# EAGLE library part CONN_23 (library bitcows-SparkFun-Connectors)
Multi connection point. Often used as Generic Header-pin footprint for 0.1 inch spaced/style header connections On any of the 0.1 inch spaced packages, you can populate with these: Break Away Headers - Straight <https://www.sparkfun.com/products/116> (PRT-00116) Break Away Male Headers - Right Angle <https://www.sparkfun.com/products/553> (PRT-00553) Female Headers <https://www.sparkfun.com/products/115> (PRT-00115) Break Away Headers - Machine Pin <https://www.sparkfun.com/products/117> (PRT-00117) Break Away Female Headers - Swiss Machine Pin <https://www.sparkfun.com/products/743> (PRT-00743) For SCREWTERMINALS and SPRING TERMINALS visit here: Screw Terimnals on SparkFun.com <https://www.sparkfun.com/search/results?term=Screw+Terminals> (5mm/3.5mm/2.54mm spacing) This device is also useful as a general connection point to wire up your design to another part of your project. Our various solder wires solder well into these plated through hole pads. Hook-Up Wire - Assortment (Stranded, 22 AWG) <https://www.sparkfun.com/products/11375> (PRT-11375) Hook-Up Wire - Assortment (Solid Core, 22 AWG) <https://www.sparkfun.com/products/11367> (PRT-11367) View the entire wire category on our website here <https://www.sparkfun.com/categories/141> Special notes: Molex polarized connector foot print use with SKU : PRT-08231 with associated crimp pins and housings. 1MM SMD Version SKU: PRT-10208 NOTES ON THE VARIANTS LOCK and LOCK_LONGPADS... This footprint was designed to help hold the alignment of a through-hole component (i.e. 6-pin header) while soldering it into place. You may notice that each hole has been shifted either up or down by 0.005 of an inch from it's more standard position (which is a perfectly straight line). This slight alteration caused the pins (the squares in the middle) to touch the edges of the holes. Because they are alternating, it causes a "brace" to hold the component in place. 0.005 has proven to be the perfect amount of "off-center" position when using our standard breakaway headers. Although looks a little odd when you look at the bare footprint, once you have a header in there, the alteration is very hard to notice. Also,if you push a header all the way into place, it is covered up entirely on the bottom side.
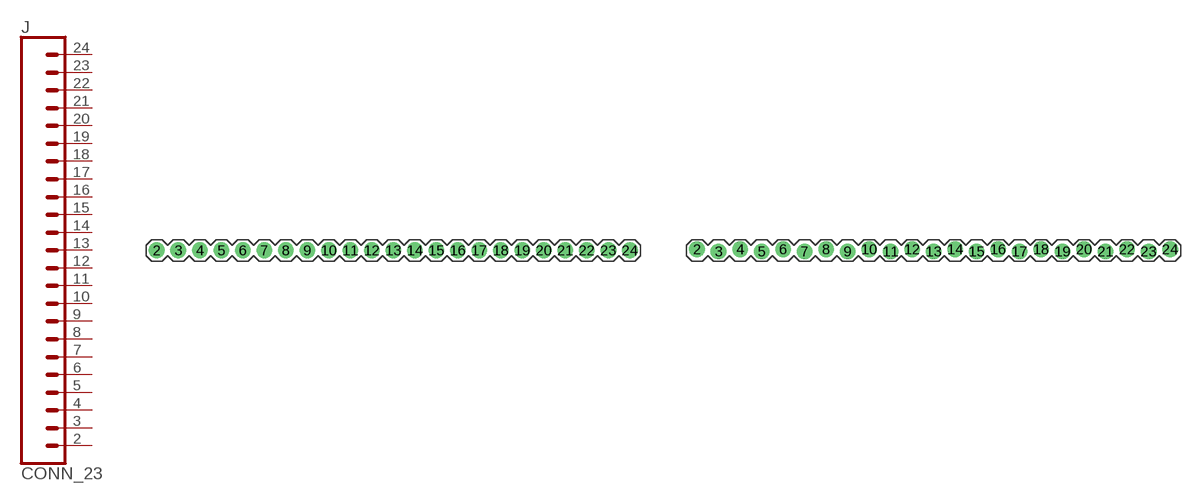
[diagram p43: symbol with the pads of 1X23; footprints 1X23, 1X23_LOCK]

Designator prefix J

## CONN_23  [1X23]
2  2  pas
3  3  pas
4  4  pas
5  5  pas
6  6  pas
7  7  pas
8  8  pas
9  9  pas
10  10  pas
11  11  pas
12  12  pas
13  13  pas
14  14  pas
15  15  pas
16  16  pas
17  17  pas
18  18  pas
19  19  pas
20  20  pas
21  21  pas
22  22  pas
23  23  pas
24  24  pas

## CONN_23LOCK  [1X23_LOCK]
Pads as for 1X23

## CONN_23LONGPADS  [1X23_LONGPADS]
Pads as for 1X23

## Footprint 1X23 (pad centres in mm)
Plated Through Hole -23 Pin Specifications: Pin count:23 Pin pitch:0.1" Example device(s): CONN_23
drill 1.016 pad 1.88: 2 -26.67,0; 3 -24.13,0; 4 -21.59,0; 5 -19.05,0; 6 -16.51,0; 7 -13.97,0; 8 -11.43,0; 9 -8.89,0; 10 -6.35,0; 11 -3.81,0; 12 -1.27,0; 13 1.27,0; 14 3.81,0; 15 6.35,0; 16 8.89,0; 17 11.43,0; 18 13.97,0; 19 16.51,0; 20 19.05,0; 21 21.59,0; 22 24.13,0; 23 26.67,0; 24 29.21,0

## Footprint 1X23_LOCK (pad centres in mm)
Plated Through Hole -23 Pin Locking Footprint Holes are offset 0.005" from center, to hold pins in place while soldering Specifications: Pin count:23 Pin pitch:0.1" Example device(s): CONN_23
drill 1.016 pad 1.88: 2 -26.67,0.127; 3 -24.13,-0.127; 4 -21.59,0.127; 5 -19.05,-0.127; 6 -16.51,0.127; 7 -13.97,-0.127; 8 -11.43,0.127; 9 -8.89,-0.127; 10 -6.35,0.127; 11 -3.81,-0.127; 12 -1.27,0.127; 13 1.27,-0.127; 14 3.81,0.127; 15 6.35,-0.127; 16 8.89,0.127; 17 11.43,-0.127; 18 13.97,0.127; 19 16.51,-0.127; 20 19.05,0.127; 21 21.59,-0.127; 22 24.13,0.127; 23 26.67,-0.127; 24 29.21,0.127

## Footprint 1X23_LONGPADS (pad centres in mm)
Plated Through Hole -23 Pin Long Pads Specifications: Pin count:23 Pin pitch:0.1" Example device(s): CONN_23
drill 1.118 pad 1.88 long: 2 -26.67,0; 3 -24.13,0; 4 -21.59,0; 5 -19.05,0; 6 -16.51,0; 7 -13.97,0; 8 -11.43,0; 9 -8.89,0; 10 -6.35,0; 11 -3.81,0; 12 -1.27,0; 13 1.27,0; 14 3.81,0; 15 6.35,0; 16 8.89,0; 17 11.43,0; 18 13.97,0; 19 16.51,0; 20 19.05,0; 21 21.59,0; 22 24.13,0; 23 26.67,0; 24 29.21,0; 25 31.75,0